# EAGLE library part SH1.0MM-5P (library Bits_library_eagle)
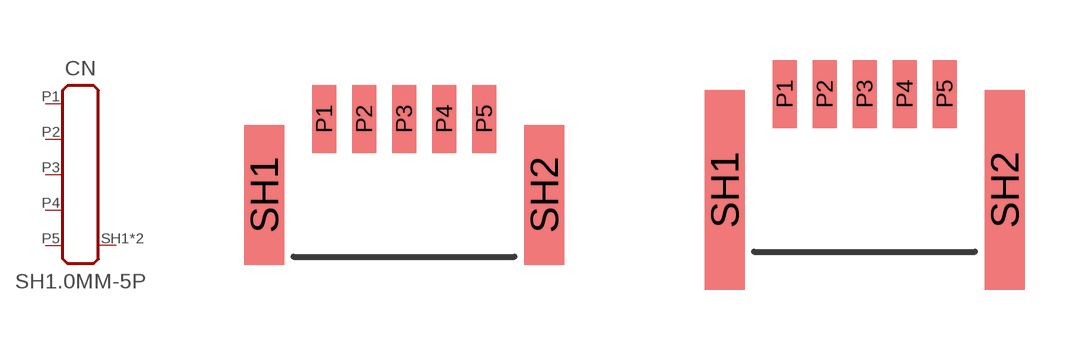
[diagram p63: symbol with the pads of 5-SH1.0MM; footprints 5-SH1.0MM, 5-SH1.0MM_L]

Designator prefix CN

## SH1.0MM-5P  [5-SH1.0MM]
P1  P1
P2  P2
P3  P3
P4  P4
P5  P5
SH1  SH  pas
SH2  SH  pas

## SH1.0MM-5PL  [5-SH1.0MM_L]
Pads as for 5-SH1.0MM

## Footprint 5-SH1.0MM (pad centres in mm)
smd 0.6 x 1.7: P1 -2,0.35; P2 -1,0.35; P3 0,0.35; P4 1,0.35; P5 2,0.35
smd 1 x 3.5: SH1 -3.5,-1.55; SH2 3.5,-1.55

## Footprint 5-SH1.0MM_L (pad centres in mm)
smd 0.6 x 1.7: P1 -2,0.85; P2 -1,0.85; P3 0,0.85; P4 1,0.85; P5 2,0.85
smd 1 x 5: SH1 -3.5,-1.55; SH2 3.5,-1.55